# EAGLE library part S12B-PH (library con-jst-ph)
JST PH series header 2.00mm pitch disconnectable crimp style connectors, horizontal (side entry type), 12 pins
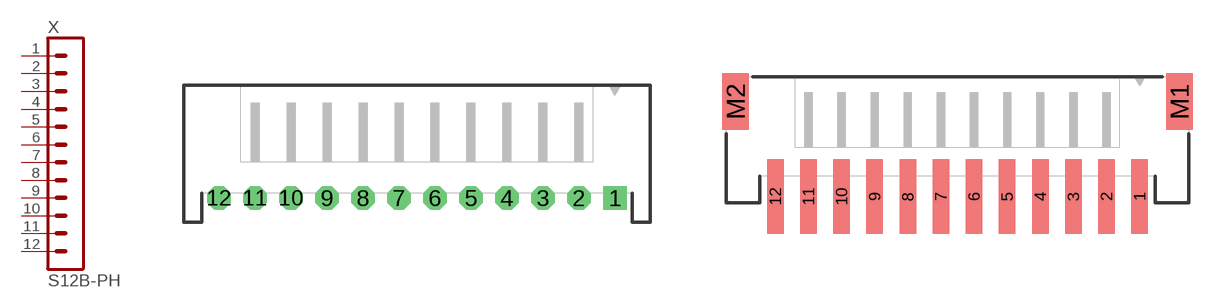
[diagram p17: symbol with the pads of S12B-PH-KL-S; footprints S12B-PH-KL-S, S12B-PH-SM4-TB]

Designator prefix X

## S12B-PH-KL-S  [S12B-PH-KL-S]
1  1  pas
2  2  pas
3  3  pas
4  4  pas
5  5  pas
6  6  pas
7  7  pas
8  8  pas
9  9  pas
10  10  pas
11  11  pas
12  12  pas

## S12B-PH-SM4-TB  [S12B-PH-SM4-TB]
Pads as for S12B-PH-KL-S

## Footprint S12B-PH-KL-S (pad centres in mm)
JST PH series header 2.00mm pitch disconnectable crimp style connectors, through-hole horizontal (side entry type), 12 pins
drill 0.7 pad 1.321 square: 1 11,0
drill 0.7 pad 1.321 octagon: 2 9,0; 3 7,0; 4 5,0; 5 3,0; 6 1,0; 7 -1,0; 8 -3,0; 9 -5,0; 10 -7,0; 11 -9,0; 12 -11,0

## Footprint S12B-PH-SM4-TB (pad centres in mm)
JST PH series header 2.00mm pitch disconnectable crimp style connectors, SMT horizontal (side entry type), 12 pins
smd 1 x 4.5: 1 11,0; 2 9,0; 3 7,0; 4 5,0; 5 3,0; 6 1,0; 7 -1,0; 8 -3,0; 9 -5,0; 10 -7,0; 11 -9,0; 12 -11,0
smd 1.6 x 3.4: M1 13.4,5.75; M2 -13.4,5.75